# Altium integrated library Diodes - TVS.IntLib: 5379 symbols (part 103 of 122)
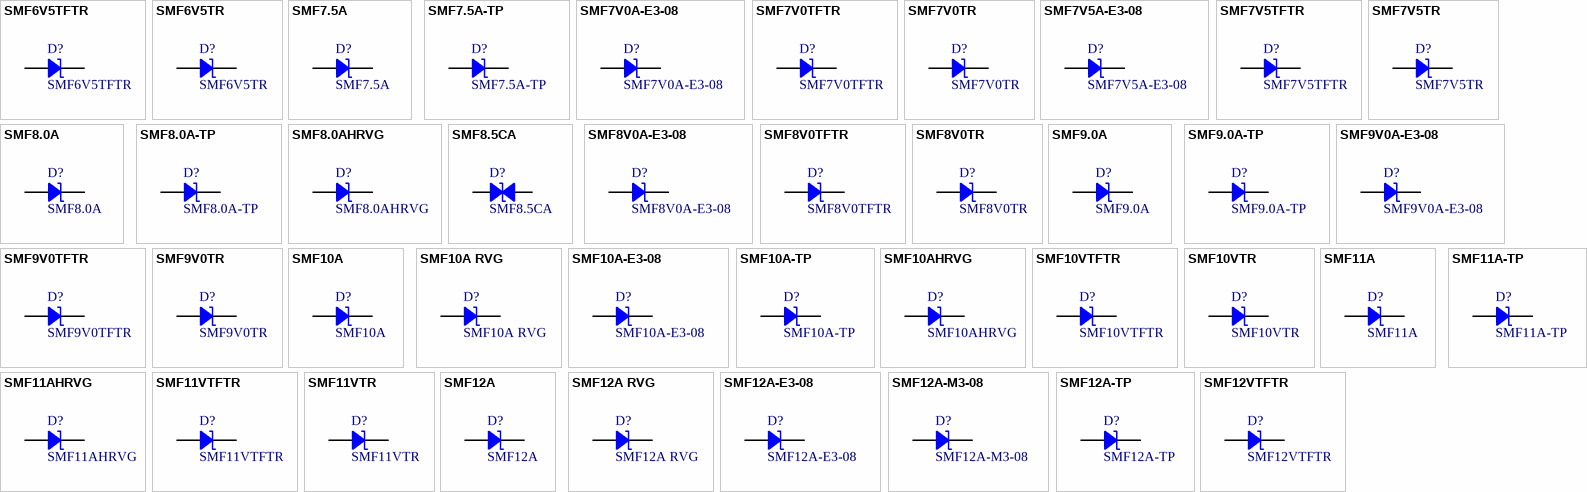
[diagram p236: symbols SMF6V5TFTR to SMF12VTFTR]

## SMF7V5A-E3-08
designator D?
TVS DIODE 7.5V 12.9V DO219AB; Manufacturer: Vishay Semiconductor Diodes Division; Capacitance @ Frequency: 773pF @ 1MHz; Current - Peak Pulse (10/1000µs): 15.5A; Power Line Protection: No; Power - Peak Pulse: 200W; Type: Zener; Unidirectional Channels: 1; Voltage - Breakdown (Min): 8.33V; Part Number: SMF7V5A-E3-08; Applications: General Purpose; ComponentLink1Description: Datasheet; ComponentLink1URL: http://www.vishay.com/docs/85881/smf5v0atosmf58a.pdf; ComponentLink2Description: DigiKey Link; ComponentLink2URL: http://digikey.com/product-detail/en/vishay-semiconductor-diodes-division/SMF7V5A-E3-08/SMF7V5A-E3-08GICT-ND/5639187; LastUpdated: 9/2/2020 1:27:45 AM; Lifecycle Status: Active; Minimum Order: 1; Mounting Type: Surface Mount; Operating Temperature: -65°C ~ 175°C (TJ); Package / Case: DO-219AB; Packaging: TapeAndReel; PartId: 5506; Part Status: Active; Price: 0.10; Series: -; Supplier 1: DigiKey; Supplier Part Number 1: SMF7V5A-E3-08GICT-ND; Supplier Device Package: SMF; Voltage - Clamping (Max) @ Ipp: 12.9V; Voltage - Reverse Standoff (Typ): 7.5V
footprint SMF DO-219AB
pins: 1, 2

## SMF7V5TFTR
designator D?
SMF7V5TF IS A TRANSIENT VOLTAGE; Manufacturer: Rohm Semiconductor; Current - Peak Pulse (10/1000µs): 15.5A; Power Line Protection: No; Power - Peak Pulse: 200W; Type: Zener; Unidirectional Channels: 1; Voltage - Breakdown (Min): 8.33V; Voltage - Clamping (Max) @ Ipp: 12.9V; Voltage - Reverse Standoff (Typ): 7.5V; Part Number: SMF7V5TFTR; Applications: Automotive; ComponentLink1Description: Datasheet; ComponentLink1URL: https://www.rohm.com/datasheet/SMF7V5TF/smf7v5tftr-e; ComponentLink2Description: DigiKey Link; ComponentLink2URL: http://digikey.com/product-detail/en/rohm-semiconductor/SMF7V5TFTR/SMF7V5TFCT-ND/9748297; LastUpdated: 9/2/2020 1:28:36 AM; Lifecycle Status: Active; Minimum Order: 1; Mounting Type: Surface Mount; Operating Temperature: 150°C (TJ); Package / Case: SOD-123F; Packaging: TapeAndReel; PartId: 10130; Part Status: Active; Price: 0.11; Series: Automotive, AEC-Q101; Supplier 1: DigiKey; Supplier Part Number 1: SMF7V5TFCT-ND; Supplier Device Package: PMDU
footprint SOD123F
pins: 1, 2

## SMF7V5TR
designator D?
TRANSIENT VOLTAGE SUPPRESSOR - S; Manufacturer: Rohm Semiconductor; Current - Peak Pulse (10/1000µs): 15.5A; Power Line Protection: No; Power - Peak Pulse: 200W; Type: Zener; Unidirectional Channels: 1; Voltage - Breakdown (Min): 8.33V; Voltage - Clamping (Max) @ Ipp: 12.9V; Voltage - Reverse Standoff (Typ): 7.5V (Max); Part Number: SMF7V5TR; Applications: General Purpose; ComponentLink1Description: Datasheet; ComponentLink1URL: https://www.rohm.com/datasheet/STZ6.8NFH/stz6.8nfh; ComponentLink2Description: DigiKey Link; ComponentLink2URL: http://digikey.com/product-detail/en/rohm-semiconductor/SMF7V5TR/846-SMF7V5CT-ND/10709520; LastUpdated: 9/2/2020 1:28:36 AM; Lifecycle Status: Active; Minimum Order: 1; Mounting Type: Surface Mount; Operating Temperature: 150°C (TJ); Package / Case: SOD-123F; Packaging: Unknown; PartId: 10061; Part Status: Active; Price: 0.06; Series: -; Supplier 1: DigiKey; Supplier Part Number 1: 846-SMF7V5CT-ND; Supplier Device Package: PMDU
footprint SOD123F
pins: 1, 2

## SMF8.0A
designator D?
TVS DIODE 8V 13.6V SOD123F; Manufacturer: Littelfuse Inc.; Current - Peak Pulse (10/1000µs): 14.7A; Power Line Protection: No; Power - Peak Pulse: 200W; Type: Zener; Unidirectional Channels: 1; Voltage - Breakdown (Min): 8.89V; Part Number: SMF8.0A; Applications: General Purpose; ComponentLink1Description: Datasheet; ComponentLink1URL: https://www.littelfuse.com/~/media/electronics/datasheets/tvs_diodes/littelfuse_tvs_diode_smf_datasheet.pdf.pdf; ComponentLink2Description: DigiKey Link; ComponentLink2URL: http://digikey.com/product-detail/en/littelfuse-inc/SMF8.0A/F5753CT-ND/3543185; LastUpdated: 9/2/2020 1:28:36 AM; Lifecycle Status: Active; Minimum Order: 1; Mounting Type: Surface Mount; Operating Temperature: -55°C ~ 150°C (TJ); Package / Case: SOD-123F; Packaging: TapeAndReel; PartId: 10118; Part Status: Active; Price: 0.11; Series: SMF; Supplier 1: DigiKey; Supplier Part Number 1: F5753CT-ND; Supplier Device Package: SOD-123F; Voltage - Clamping (Max) @ Ipp: 13.6V; Voltage - Reverse Standoff (Typ): 8V
footprint SOD123F
pins: 1, 2

## SMF8.0A-TP
designator D?
TVS DIODE 8V 13.6V SOD123FL; Manufacturer: Micro Commercial Co; Current - Peak Pulse (10/1000µs): 14.7A; Power Line Protection: No; Power - Peak Pulse: 200W; Type: Zener; Unidirectional Channels: 1; Voltage - Breakdown (Min): 8.89V; Part Number: SMF8.0A-TP; Applications: General Purpose; ComponentLink1Description: Datasheet; ComponentLink1URL: https://www.mccsemi.com/pdf/Products/SMF5.0-170(SOD-123FL)-V2.pdf; ComponentLink2Description: DigiKey Link; ComponentLink2URL: http://digikey.com/product-detail/en/micro-commercial-co/SMF8.0A-TP/SMF8.0A-TPMSCT-ND/4876894; LastUpdated: 9/2/2020 1:28:36 AM; Lifecycle Status: Active; Minimum Order: 1; Mounting Type: Surface Mount; Operating Temperature: -65°C ~ 175°C (TA); Package / Case: SOD-123F; Packaging: TapeAndReel; PartId: 10109; Part Status: Active; Price: 0.09; Series: -; Supplier 1: DigiKey; Supplier Part Number 1: SMF8.0A-TPMSCT-ND; Supplier Device Package: SOD-123FL; Voltage - Clamping (Max) @ Ipp: 13.6V; Voltage - Reverse Standoff (Typ): 8V
footprint SOD123F
pins: 1, 2

## SMF8.0AHRVG
designator D?
DIODE, TVS, UNIDIRECTIONAL; Manufacturer: Taiwan Semiconductor Corporation; Current - Peak Pulse (10/1000µs): 14.7A; Power Line Protection: No; Power - Peak Pulse: 200W; Type: Zener; Unidirectional Channels: 1; Voltage - Breakdown (Min): 8.89V; Voltage - Clamping (Max) @ Ipp: 13.6V; Voltage - Reverse Standoff (Typ): 8V; Part Number: SMF8.0AHRVG; Applications: Automotive; ComponentLink1Description: Datasheet; ComponentLink1URL: https://www.taiwansemi.com/products/datasheet/SMF5.0A%20SERIES_B1709.pdf; ComponentLink2Description: DigiKey Link; ComponentLink2URL: http://digikey.com/product-detail/en/taiwan-semiconductor-corporation/SMF8.0AHRVG/SMF8.0AHRVGCT-ND/8600443; LastUpdated: 9/2/2020 1:28:40 AM; Lifecycle Status: Active; Minimum Order: 1; Mounting Type: Surface Mount; Operating Temperature: -55°C ~ 175°C (TJ); Package / Case: SOD-123W; Packaging: TapeAndReel; PartId: 10293; Part Status: Active; Price: 0.09; Series: Automotive, AEC-Q101; Supplier 1: DigiKey; Supplier Part Number 1: SMF8.0AHRVGCT-ND; Supplier Device Package: SOD-123W
footprint SOD-123W
pins: 1, 2

## SMF8.5CA
designator D?
TVS DIODE 200W BI 8.5V SMD; Manufacturer: Littelfuse Inc.; Bidirectional Channels: 1; Current - Peak Pulse (10/1000µs): 13.9A; Power Line Protection: No; Type: Zener; Voltage - Breakdown (Min): 9.44V; Voltage - Clamping (Max) @ Ipp: 14.4V; Part Number: SMF8.5CA; Applications: General Purpose; ComponentLink1Description: Datasheet; ComponentLink1URL: https://www.littelfuse.com/~/media/electronics/datasheets/tvs_diodes/littelfuse_tvs_diode_smf_datasheet.pdf.pdf; ComponentLink2Description: DigiKey Link; ComponentLink2URL: http://digikey.com/product-detail/en/littelfuse-inc/SMF8.5CA/18-SMF8.5CACT-ND/11206244; LastUpdated: 9/2/2020 1:28:38 AM; Lifecycle Status: Active; Minimum Order: 1; Mounting Type: Surface Mount; Operating Temperature: -65°C ~ 150°C (TJ); Package / Case: SOD-123F; Packaging: Unknown; PartId: 10230; Part Status: Active; Power - Peak Pulse: 200W; Price: 0.12; Series: SMF; Supplier 1: DigiKey; Supplier Part Number 1: 18-SMF8.5CACT-ND; Supplier Device Package: SOD-123FL; Voltage - Reverse Standoff (Typ): 8.5V
footprint SOD123F
pins: 1, 2

## SMF8V0A-E3-08
designator D?
TVS DIODE 8V 13.6V DO219AB; Manufacturer: Vishay Semiconductor Diodes Division; Capacitance @ Frequency: 706pF @ 1MHz; Current - Peak Pulse (10/1000µs): 14.7A; Power Line Protection: No; Power - Peak Pulse: 200W; Type: Zener; Unidirectional Channels: 1; Voltage - Breakdown (Min): 8.89V; Part Number: SMF8V0A-E3-08; Applications: General Purpose; ComponentLink1Description: Datasheet; ComponentLink1URL: http://www.vishay.com/docs/85881/smf5v0atosmf58a.pdf; ComponentLink2Description: DigiKey Link; ComponentLink2URL: http://digikey.com/product-detail/en/vishay-semiconductor-diodes-division/SMF8V0A-E3-08/SMF8V0A-E3-08GICT-ND/5639188; LastUpdated: 9/2/2020 1:27:45 AM; Lifecycle Status: Active; Minimum Order: 1; Mounting Type: Surface Mount; Operating Temperature: -65°C ~ 175°C (TJ); Package / Case: DO-219AB; Packaging: TapeAndReel; PartId: 5510; Part Status: Active; Price: 0.10; Series: -; Supplier 1: DigiKey; Supplier Part Number 1: SMF8V0A-E3-08GICT-ND; Supplier Device Package: SMF; Voltage - Clamping (Max) @ Ipp: 13.6V; Voltage - Reverse Standoff (Typ): 8V
footprint SMF DO-219AB
pins: 1, 2

## SMF8V0TFTR
designator D?
SMF8V0TF IS A TRANSIENT VOLTAGE; Manufacturer: Rohm Semiconductor; Current - Peak Pulse (10/1000µs): 14.7A; Power Line Protection: No; Power - Peak Pulse: 200W; Type: Zener; Unidirectional Channels: 1; Voltage - Breakdown (Min): 8.89V; Voltage - Clamping (Max) @ Ipp: 13.6V; Voltage - Reverse Standoff (Typ): 8V; Part Number: SMF8V0TFTR; Applications: Automotive; ComponentLink1Description: Datasheet; ComponentLink1URL: https://www.rohm.com/datasheet/SMF8V0TF/smf8v0tftr-e; ComponentLink2Description: DigiKey Link; ComponentLink2URL: http://digikey.com/product-detail/en/rohm-semiconductor/SMF8V0TFTR/SMF8V0TFCT-ND/9748298; LastUpdated: 9/2/2020 1:28:36 AM; Lifecycle Status: Active; Minimum Order: 1; Mounting Type: Surface Mount; Operating Temperature: 150°C (TJ); Package / Case: SOD-123F; Packaging: TapeAndReel; PartId: 10138; Part Status: Active; Price: 0.11; Series: Automotive, AEC-Q101; Supplier 1: DigiKey; Supplier Part Number 1: SMF8V0TFCT-ND; Supplier Device Package: PMDU
footprint SOD123F
pins: 1, 2

## SMF8V0TR
designator D?
TRANSIENT VOLTAGE SUPPRESSOR - S; Manufacturer: Rohm Semiconductor; Current - Peak Pulse (10/1000µs): 14.7A; Power Line Protection: No; Power - Peak Pulse: 200W; Type: Zener; Unidirectional Channels: 1; Voltage - Breakdown (Min): 8.89V; Voltage - Clamping (Max) @ Ipp: 13.6V; Voltage - Reverse Standoff (Typ): 8V (Max); Part Number: SMF8V0TR; Applications: General Purpose; ComponentLink1Description: Datasheet; ComponentLink1URL: https://www.rohm.com/datasheet/STZU6.2N/stzu6.2nt146-e; ComponentLink2Description: DigiKey Link; ComponentLink2URL: http://digikey.com/product-detail/en/rohm-semiconductor/SMF8V0TR/846-SMF8V0CT-ND/10709516; LastUpdated: 9/2/2020 1:28:36 AM; Lifecycle Status: Active; Minimum Order: 1; Mounting Type: Surface Mount; Operating Temperature: 150°C (TJ); Package / Case: SOD-123F; Packaging: Unknown; PartId: 10062; Part Status: Active; Price: 0.06; Series: -; Supplier 1: DigiKey; Supplier Part Number 1: 846-SMF8V0CT-ND; Supplier Device Package: PMDU
footprint SOD123F
pins: 1, 2

## SMF9.0A
designator D?
TVS DIODE 9V 15.4V SOD123F; Manufacturer: Littelfuse Inc.; Current - Peak Pulse (10/1000µs): 13A; Power Line Protection: No; Power - Peak Pulse: 200W; Type: Zener; Unidirectional Channels: 1; Voltage - Breakdown (Min): 10V; Part Number: SMF9.0A; Applications: General Purpose; ComponentLink1Description: Datasheet; ComponentLink1URL: https://www.littelfuse.com/~/media/electronics/datasheets/tvs_diodes/littelfuse_tvs_diode_smf_datasheet.pdf.pdf; ComponentLink2Description: DigiKey Link; ComponentLink2URL: http://digikey.com/product-detail/en/littelfuse-inc/SMF9.0A/F5755CT-ND/3543187; LastUpdated: 9/2/2020 1:28:37 AM; Lifecycle Status: Active; Minimum Order: 1; Mounting Type: Surface Mount; Operating Temperature: -55°C ~ 150°C (TJ); Package / Case: SOD-123F; Packaging: TapeAndReel; PartId: 10223; Part Status: Active; Price: 0.11; Series: SMF; Supplier 1: DigiKey; Supplier Part Number 1: F5755CT-ND; Supplier Device Package: SOD-123F; Voltage - Clamping (Max) @ Ipp: 15.4V; Voltage - Reverse Standoff (Typ): 9V
footprint SOD123F
pins: 1, 2

## SMF9.0A-TP
designator D?
TVS DIODE 9V 15.4V SOD123FL; Manufacturer: Micro Commercial Co; Current - Peak Pulse (10/1000µs): 13A; Power Line Protection: No; Power - Peak Pulse: 200W; Type: Zener; Unidirectional Channels: 1; Voltage - Breakdown (Min): 10V; Part Number: SMF9.0A-TP; Applications: General Purpose; ComponentLink1Description: Datasheet; ComponentLink1URL: https://www.mccsemi.com/pdf/Products/SMF5.0-170(SOD-123FL)-V2.pdf; ComponentLink2Description: DigiKey Link; ComponentLink2URL: http://digikey.com/product-detail/en/micro-commercial-co/SMF9.0A-TP/SMF9.0A-TPMSCT-ND/5114033; LastUpdated: 9/2/2020 1:28:36 AM; Lifecycle Status: Active; Minimum Order: 1; Mounting Type: Surface Mount; Operating Temperature: -65°C ~ 175°C (TA); Package / Case: SOD-123F; Packaging: TapeAndReel; PartId: 10105; Part Status: Active; Price: 0.09; Series: -; Supplier 1: DigiKey; Supplier Part Number 1: SMF9.0A-TPMSCT-ND; Supplier Device Package: SOD-123FL; Voltage - Clamping (Max) @ Ipp: 15.4V; Voltage - Reverse Standoff (Typ): 9V
footprint SOD123F
pins: 1, 2

## SMF9V0A-E3-08
designator D?
TVS DIODE 9V 15.4V SMF; Manufacturer: Vishay Semiconductor Diodes Division; Capacitance @ Frequency: 640pF @ 1MHz; Current - Peak Pulse (10/1000µs): 13.5A; Power Line Protection: No; Power - Peak Pulse: 200W; Type: Zener; Unidirectional Channels: 1; Voltage - Breakdown (Min): 10V; Part Number: SMF9V0A-E3-08; Applications: General Purpose; ComponentLink1Description: Datasheet; ComponentLink1URL: http://www.vishay.com/docs/85881/smf5v0atosmf58a.pdf; ComponentLink2Description: DigiKey Link; ComponentLink2URL: http://digikey.com/product-detail/en/vishay-semiconductor-diodes-division/SMF9V0A-E3-08/SMF9V0A-E3-08GICT-ND/5639190; LastUpdated: 9/2/2020 1:27:45 AM; Lifecycle Status: Active; Minimum Order: 1; Mounting Type: Surface Mount; Operating Temperature: -65°C ~ 175°C (TJ); Package / Case: DO-219AB; Packaging: TapeAndReel; PartId: 5509; Part Status: Active; Price: 0.10; Series: -; Supplier 1: DigiKey; Supplier Part Number 1: SMF9V0A-E3-08GICT-ND; Supplier Device Package: SMF; Voltage - Clamping (Max) @ Ipp: 15.4V; Voltage - Reverse Standoff (Typ): 9V
footprint SMF DO-219AB
pins: 1, 2

## SMF9V0TFTR
designator D?
SMF9V0TF IS A TRANSIENT VOLTAGE; Manufacturer: Rohm Semiconductor; Current - Peak Pulse (10/1000µs): 13A; Power Line Protection: No; Power - Peak Pulse: 200W; Type: Zener; Unidirectional Channels: 1; Voltage - Breakdown (Min): 10V; Voltage - Clamping (Max) @ Ipp: 15.4V; Voltage - Reverse Standoff (Typ): 9V; Part Number: SMF9V0TFTR; Applications: Automotive; ComponentLink1Description: Datasheet; ComponentLink1URL: https://www.rohm.com/datasheet/SMF9V0TF/smf9v0tftr-e; ComponentLink2Description: DigiKey Link; ComponentLink2URL: http://digikey.com/product-detail/en/rohm-semiconductor/SMF9V0TFTR/SMF9V0TFCT-ND/9748299; LastUpdated: 9/2/2020 1:28:36 AM; Lifecycle Status: Active; Minimum Order: 1; Mounting Type: Surface Mount; Operating Temperature: 150°C (TJ); Package / Case: SOD-123F; Packaging: TapeAndReel; PartId: 10129; Part Status: Active; Price: 0.11; Series: Automotive, AEC-Q101; Supplier 1: DigiKey; Supplier Part Number 1: SMF9V0TFCT-ND; Supplier Device Package: PMDU
footprint SOD123F
pins: 1, 2

## SMF9V0TR
designator D?
TRANSIENT VOLTAGE SUPPRESSOR - S; Manufacturer: Rohm Semiconductor; Current - Peak Pulse (10/1000µs): 13A; Power Line Protection: No; Power - Peak Pulse: 200W; Type: Zener; Unidirectional Channels: 1; Voltage - Breakdown (Min): 10V; Voltage - Clamping (Max) @ Ipp: 15.4V; Voltage - Reverse Standoff (Typ): 9V (Max); Part Number: SMF9V0TR; Applications: General Purpose; ComponentLink1Description: Datasheet; ComponentLink1URL: https://www.rohm.com/datasheet/UMB11NFHA/umb11nfha-e; ComponentLink2Description: DigiKey Link; ComponentLink2URL: http://digikey.com/product-detail/en/rohm-semiconductor/SMF9V0TR/846-SMF9V0CT-ND/10709578; LastUpdated: 9/2/2020 1:28:36 AM; Lifecycle Status: Active; Minimum Order: 1; Mounting Type: Surface Mount; Operating Temperature: 150°C (TJ); Package / Case: SOD-123F; Packaging: Unknown; PartId: 10052; Part Status: Active; Price: 0.06; Series: -; Supplier 1: DigiKey; Supplier Part Number 1: 846-SMF9V0CT-ND; Supplier Device Package: PMDU
footprint SOD123F
pins: 1, 2

## SMF10A
designator D?
TVS DIODE 10V 17V SOD123F; Manufacturer: Littelfuse Inc.; Current - Peak Pulse (10/1000µs): 11.8A; Power Line Protection: No; Power - Peak Pulse: 200W; Type: Zener; Unidirectional Channels: 1; Voltage - Breakdown (Min): 11.1V; Part Number: SMF10A; Applications: General Purpose; ComponentLink1Description: Datasheet; ComponentLink1URL: https://www.littelfuse.com/~/media/electronics/datasheets/tvs_diodes/littelfuse_tvs_diode_smf_datasheet.pdf.pdf; ComponentLink2Description: DigiKey Link; ComponentLink2URL: http://digikey.com/product-detail/en/littelfuse-inc/SMF10A/F5745CT-ND/3543177; LastUpdated: 9/2/2020 1:28:37 AM; Lifecycle Status: Active; Minimum Order: 1; Mounting Type: Surface Mount; Operating Temperature: -55°C ~ 150°C (TJ); Package / Case: SOD-123F; Packaging: TapeAndReel; PartId: 10222; Part Status: Active; Price: 0.11; Series: SMF; Supplier 1: DigiKey; Supplier Part Number 1: F5745CT-ND; Supplier Device Package: SOD-123F; Voltage - Clamping (Max) @ Ipp: 17V; Voltage - Reverse Standoff (Typ): 10V
footprint SOD123F
pins: 1, 2

## SMF10A RVG
designator D?
DIODE, TVS, UNIDIRECTIONAL; Manufacturer: Taiwan Semiconductor Corporation; Current - Peak Pulse (10/1000µs): 11.8A; Power Line Protection: No; Power - Peak Pulse: 200W; Type: Zener; Unidirectional Channels: 1; Voltage - Breakdown (Min): 11.1V; Voltage - Clamping (Max) @ Ipp: 17V; Voltage - Reverse Standoff (Typ): 10V; Part Number: SMF10A RVG; Applications: General Purpose; ComponentLink1Description: Datasheet; ComponentLink1URL: https://www.taiwansemi.com/products/datasheet/SMF5.0A%20SERIES_B1709.pdf; ComponentLink2Description: DigiKey Link; ComponentLink2URL: http://digikey.com/product-detail/en/taiwan-semiconductor-corporation/SMF10A-RVG/SMF10ARVGCT-ND/8600402; LastUpdated: 9/2/2020 1:28:40 AM; Lifecycle Status: Active; Minimum Order: 1; Mounting Type: Surface Mount; Operating Temperature: -55°C ~ 175°C (TJ); Package / Case: SOD-123W; Packaging: TapeAndReel; PartId: 10339; Part Status: Active; Price: 0.08; Series: -; Supplier 1: DigiKey; Supplier Part Number 1: SMF10ARVGCT-ND; Supplier Device Package: SOD-123W
footprint SOD-123W
pins: 1, 2

## SMF10A-E3-08
designator D?
TVS DIODE 10V 17V SMF; Manufacturer: Vishay Semiconductor Diodes Division; Capacitance @ Frequency: 562pF @ 1MHz; Current - Peak Pulse (10/1000µs): 11.8A; Power Line Protection: No; Power - Peak Pulse: 200W; Type: Zener; Unidirectional Channels: 1; Voltage - Breakdown (Min): 11.1V; Part Number: SMF10A-E3-08; Applications: General Purpose; ComponentLink1Description: Datasheet; ComponentLink1URL: http://www.vishay.com/docs/85881/smf5v0atosmf58a.pdf; ComponentLink2Description: DigiKey Link; ComponentLink2URL: http://digikey.com/product-detail/en/vishay-semiconductor-diodes-division/SMF10A-E3-08/SMF10A-E3-08CT-ND/1680629; LastUpdated: 9/2/2020 1:27:45 AM; Lifecycle Status: Active; Minimum Order: 1; Mounting Type: Surface Mount; Operating Temperature: -65°C ~ 175°C (TJ); Package / Case: DO-219AB; Packaging: TapeAndReel; PartId: 5502; Part Status: Active; Price: 0.10; Series: -; Supplier 1: DigiKey; Supplier Part Number 1: SMF10A-E3-08CT-ND; Supplier Device Package: SMF; Voltage - Clamping (Max) @ Ipp: 17V; Voltage - Reverse Standoff (Typ): 10V
footprint SMF DO-219AB
pins: 1, 2

## SMF10A-TP
designator D?
TVS DIODE 10V 17V SOD123FL; Manufacturer: Micro Commercial Co; Current - Peak Pulse (10/1000µs): 11.8A; Power Line Protection: No; Power - Peak Pulse: 200W; Type: Zener; Unidirectional Channels: 1; Voltage - Breakdown (Min): 11.1V; Part Number: SMF10A-TP; Applications: General Purpose; ComponentLink1Description: Datasheet; ComponentLink1URL: https://www.mccsemi.com/pdf/Products/SMF5.0-170(SOD-123FL)-V2.pdf; ComponentLink2Description: DigiKey Link; ComponentLink2URL: http://digikey.com/product-detail/en/micro-commercial-co/SMF10A-TP/SMF10A-TPMSCT-ND/5114012; LastUpdated: 9/2/2020 1:28:37 AM; Lifecycle Status: Active; Minimum Order: 1; Mounting Type: Surface Mount; Operating Temperature: -65°C ~ 175°C (TA); Package / Case: SOD-123F; Packaging: TapeAndReel; PartId: 10177; Part Status: Active; Price: 0.09; Series: -; Supplier 1: DigiKey; Supplier Part Number 1: SMF10A-TPMSCT-ND; Supplier Device Package: SOD-123FL; Voltage - Clamping (Max) @ Ipp: 17V; Voltage - Reverse Standoff (Typ): 10V
footprint SOD123F
pins: 1, 2

## SMF10AHRVG
designator D?
DIODE, TVS, UNIDIRECTIONAL; Manufacturer: Taiwan Semiconductor Corporation; Current - Peak Pulse (10/1000µs): 11.8A; Power Line Protection: No; Power - Peak Pulse: 200W; Type: Zener; Unidirectional Channels: 1; Voltage - Breakdown (Min): 11.1V; Voltage - Clamping (Max) @ Ipp: 17V; Voltage - Reverse Standoff (Typ): 10V; Part Number: SMF10AHRVG; Applications: Automotive; ComponentLink1Description: Datasheet; ComponentLink1URL: https://www.taiwansemi.com/products/datasheet/SMF5.0A%20SERIES_B1709.pdf; ComponentLink2Description: DigiKey Link; ComponentLink2URL: http://digikey.com/product-detail/en/taiwan-semiconductor-corporation/SMF10AHRVG/SMF10AHRVGCT-ND/8600403; LastUpdated: 9/2/2020 1:28:40 AM; Lifecycle Status: Active; Minimum Order: 1; Mounting Type: Surface Mount; Operating Temperature: -55°C ~ 175°C (TJ); Package / Case: SOD-123W; Packaging: TapeAndReel; PartId: 10304; Part Status: Active; Price: 0.09; Series: Automotive, AEC-Q101; Supplier 1: DigiKey; Supplier Part Number 1: SMF10AHRVGCT-ND; Supplier Device Package: SOD-123W
footprint SOD-123W
pins: 1, 2

## SMF10VTFTR
designator D?
SMF10VTF IS A TRANSIENT VOLTAGE; Manufacturer: Rohm Semiconductor; Current - Peak Pulse (10/1000µs): 11.8A; Power Line Protection: No; Power - Peak Pulse: 200W; Type: Zener; Unidirectional Channels: 1; Voltage - Breakdown (Min): 11.1V; Voltage - Clamping (Max) @ Ipp: 17V; Voltage - Reverse Standoff (Typ): 10V; Part Number: SMF10VTFTR; Applications: Automotive; ComponentLink1Description: Datasheet; ComponentLink1URL: https://www.rohm.com/datasheet/SMF10VTF/smf10vtftr-e; ComponentLink2Description: DigiKey Link; ComponentLink2URL: http://digikey.com/product-detail/en/rohm-semiconductor/SMF10VTFTR/SMF10VTFCT-ND/9748278; LastUpdated: 9/2/2020 1:28:36 AM; Lifecycle Status: Active; Minimum Order: 1; Mounting Type: Surface Mount; Operating Temperature: 150°C (TJ); Package / Case: SOD-123F; Packaging: TapeAndReel; PartId: 10044; Part Status: Active; Price: 0.11; Series: Automotive, AEC-Q101; Supplier 1: DigiKey; Supplier Part Number 1: SMF10VTFCT-ND; Supplier Device Package: PMDU
footprint SOD123F
pins: 1, 2

## SMF10VTR
designator D?
TRANSIENT VOLTAGE SUPPRESSOR - S; Manufacturer: Rohm Semiconductor; Current - Peak Pulse (10/1000µs): 11.8A; Power Line Protection: No; Power - Peak Pulse: 200W; Type: Zener; Unidirectional Channels: 1; Voltage - Breakdown (Min): 11.1V; Voltage - Clamping (Max) @ Ipp: 17V; Voltage - Reverse Standoff (Typ): 10V (Max); Part Number: SMF10VTR; Applications: General Purpose; ComponentLink1Description: Datasheet; ComponentLink1URL: https://www.rohm.com/datasheet/SMF14V/smf14vtr-e; ComponentLink2Description: DigiKey Link; ComponentLink2URL: http://digikey.com/product-detail/en/rohm-semiconductor/SMF10VTR/846-SMF10VCT-ND/10709533; LastUpdated: 9/2/2020 1:28:36 AM; Lifecycle Status: Active; Minimum Order: 1; Mounting Type: Surface Mount; Operating Temperature: 150°C (TJ); Package / Case: SOD-123F; Packaging: Unknown; PartId: 10058; Part Status: Active; Price: 0.06; Series: -; Supplier 1: DigiKey; Supplier Part Number 1: 846-SMF10VCT-ND; Supplier Device Package: PMDU
footprint SOD123F
pins: 1, 2

## SMF11A
designator D?
TVS DIODE 11V 18.2V SOD123F; Manufacturer: Littelfuse Inc.; Current - Peak Pulse (10/1000µs): 11A; Power Line Protection: No; Power - Peak Pulse: 200W; Type: Zener; Unidirectional Channels: 1; Voltage - Breakdown (Min): 12.2V; Part Number: SMF11A; Applications: General Purpose; ComponentLink1Description: Datasheet; ComponentLink1URL: https://www.littelfuse.com/~/media/electronics/datasheets/tvs_diodes/littelfuse_tvs_diode_smf_datasheet.pdf.pdf; ComponentLink2Description: DigiKey Link; ComponentLink2URL: http://digikey.com/product-detail/en/littelfuse-inc/SMF11A/F5746CT-ND/3543178; LastUpdated: 9/2/2020 1:28:37 AM; Lifecycle Status: Active; Minimum Order: 1; Mounting Type: Surface Mount; Operating Temperature: -55°C ~ 150°C (TJ); Package / Case: SOD-123F; Packaging: TapeAndReel; PartId: 10221; Part Status: Active; Price: 0.11; Series: SMF; Supplier 1: DigiKey; Supplier Part Number 1: F5746CT-ND; Supplier Device Package: SOD-123F; Voltage - Clamping (Max) @ Ipp: 18.2V; Voltage - Reverse Standoff (Typ): 11V
footprint SOD123F
pins: 1, 2

## SMF11A-TP
designator D?
TVS DIODE 11V 18.2V SOD123FL; Manufacturer: Micro Commercial Co; Current - Peak Pulse (10/1000µs): 11A; Power Line Protection: No; Power - Peak Pulse: 200W; Type: Zener; Unidirectional Channels: 1; Voltage - Breakdown (Min): 12.2V; Part Number: SMF11A-TP; Applications: General Purpose; ComponentLink1Description: Datasheet; ComponentLink1URL: https://www.mccsemi.com/pdf/Products/SMF5.0-170(SOD-123FL)-V2.pdf; ComponentLink2Description: DigiKey Link; ComponentLink2URL: http://digikey.com/product-detail/en/micro-commercial-co/SMF11A-TP/SMF11A-TPMSCT-ND/5114013; LastUpdated: 9/2/2020 1:28:36 AM; Lifecycle Status: Active; Minimum Order: 1; Mounting Type: Surface Mount; Operating Temperature: -65°C ~ 175°C (TA); Package / Case: SOD-123F; Packaging: TapeAndReel; PartId: 10108; Part Status: Active; Price: 0.09; Series: -; Supplier 1: DigiKey; Supplier Part Number 1: SMF11A-TPMSCT-ND; Supplier Device Package: SOD-123FL; Voltage - Clamping (Max) @ Ipp: 18.2V; Voltage - Reverse Standoff (Typ): 11V
footprint SOD123F
pins: 1, 2

## SMF11AHRVG
designator D?
DIODE, TVS, UNIDIRECTIONAL; Manufacturer: Taiwan Semiconductor Corporation; Current - Peak Pulse (10/1000µs): 11A; Power Line Protection: No; Power - Peak Pulse: 200W; Type: Zener; Unidirectional Channels: 1; Voltage - Breakdown (Min): 12.2V; Voltage - Clamping (Max) @ Ipp: 18.2V; Voltage - Reverse Standoff (Typ): 11V; Part Number: SMF11AHRVG; Applications: Automotive; ComponentLink1Description: Datasheet; ComponentLink1URL: https://www.taiwansemi.com/products/datasheet/SMF5.0A%20SERIES_B1709.pdf; ComponentLink2Description: DigiKey Link; ComponentLink2URL: http://digikey.com/product-detail/en/taiwan-semiconductor-corporation/SMF11AHRVG/SMF11AHRVGCT-ND/8600404; LastUpdated: 9/2/2020 1:28:40 AM; Lifecycle Status: Active; Minimum Order: 1; Mounting Type: Surface Mount; Operating Temperature: -55°C ~ 175°C (TJ); Package / Case: SOD-123W; Packaging: TapeAndReel; PartId: 10352; Part Status: Active; Price: 0.09; Series: Automotive, AEC-Q101; Supplier 1: DigiKey; Supplier Part Number 1: SMF11AHRVGCT-ND; Supplier Device Package: SOD-123W
footprint SOD-123W
pins: 1, 2

## SMF11VTFTR
designator D?
SMF11VTF IS A TRANSIENT VOLTAGE; Manufacturer: Rohm Semiconductor; Current - Peak Pulse (10/1000µs): 11A; Power Line Protection: No; Power - Peak Pulse: 200W; Type: Zener; Unidirectional Channels: 1; Voltage - Breakdown (Min): 12.2V; Voltage - Clamping (Max) @ Ipp: 18.2V; Voltage - Reverse Standoff (Typ): 11V; Part Number: SMF11VTFTR; Applications: Automotive; ComponentLink1Description: Datasheet; ComponentLink1URL: https://www.rohm.com/datasheet/SMF11VTF/smf11vtftr-e; ComponentLink2Description: DigiKey Link; ComponentLink2URL: http://digikey.com/product-detail/en/rohm-semiconductor/SMF11VTFTR/SMF11VTFCT-ND/9748279; LastUpdated: 9/2/2020 1:28:36 AM; Lifecycle Status: Active; Minimum Order: 1; Mounting Type: Surface Mount; Operating Temperature: 150°C (TJ); Package / Case: SOD-123F; Packaging: TapeAndReel; PartId: 10043; Part Status: Active; Price: 0.11; Series: Automotive, AEC-Q101; Supplier 1: DigiKey; Supplier Part Number 1: SMF11VTFCT-ND; Supplier Device Package: PMDU
footprint SOD123F
pins: 1, 2

## SMF11VTR
designator D?
TRANSIENT VOLTAGE SUPPRESSOR - S; Manufacturer: Rohm Semiconductor; Current - Peak Pulse (10/1000µs): 11A; Power Line Protection: No; Power - Peak Pulse: 200W; Type: Zener; Unidirectional Channels: 1; Voltage - Breakdown (Min): 12.2V; Voltage - Clamping (Max) @ Ipp: 18.2V; Voltage - Reverse Standoff (Typ): 11V (Max); Part Number: SMF11VTR; Applications: General Purpose; ComponentLink1Description: Datasheet; ComponentLink1URL: https://www.rohm.com/datasheet/SMF15V/smf15vtr-e; ComponentLink2Description: DigiKey Link; ComponentLink2URL: http://digikey.com/product-detail/en/rohm-semiconductor/SMF11VTR/846-SMF11VCT-ND/10709522; LastUpdated: 9/2/2020 1:28:36 AM; Lifecycle Status: Active; Minimum Order: 1; Mounting Type: Surface Mount; Operating Temperature: 150°C (TJ); Package / Case: SOD-123F; Packaging: Unknown; PartId: 10060; Part Status: Active; Price: 0.06; Series: -; Supplier 1: DigiKey; Supplier Part Number 1: 846-SMF11VCT-ND; Supplier Device Package: PMDU
footprint SOD123F
pins: 1, 2

## SMF12A
designator D?
TVS DIODE 12V 19.9V SOD123F; Manufacturer: Littelfuse Inc.; Current - Peak Pulse (10/1000µs): 10.1A; Power Line Protection: No; Power - Peak Pulse: 200W; Type: Zener; Unidirectional Channels: 1; Voltage - Breakdown (Min): 13.3V; Part Number: SMF12A; Applications: General Purpose; ComponentLink1Description: Datasheet; ComponentLink1URL: https://www.littelfuse.com/~/media/electronics/datasheets/tvs_diodes/littelfuse_tvs_diode_smf_datasheet.pdf.pdf; ComponentLink2Description: DigiKey Link; ComponentLink2URL: http://digikey.com/product-detail/en/littelfuse-inc/SMF12A/F5747CT-ND/3543179; LastUpdated: 9/2/2020 1:28:36 AM; Lifecycle Status: Active; Minimum Order: 1; Mounting Type: Surface Mount; Operating Temperature: -55°C ~ 150°C (TJ); Package / Case: SOD-123F; Packaging: TapeAndReel; PartId: 10095; Part Status: Active; Price: 0.10; Series: SMF; Supplier 1: DigiKey; Supplier Part Number 1: F5747CT-ND; Supplier Device Package: SOD-123F; Voltage - Clamping (Max) @ Ipp: 19.9V; Voltage - Reverse Standoff (Typ): 12V
footprint SOD123F
pins: 1, 2

## SMF12A RVG
designator D?
DIODE, TVS, UNIDIRECTIONAL; Manufacturer: Taiwan Semiconductor Corporation; Current - Peak Pulse (10/1000µs): 10.1A; Power Line Protection: No; Power - Peak Pulse: 200W; Type: Zener; Unidirectional Channels: 1; Voltage - Breakdown (Min): 13.3V; Voltage - Clamping (Max) @ Ipp: 19.9V; Voltage - Reverse Standoff (Typ): 12V; Part Number: SMF12A RVG; Applications: General Purpose; ComponentLink1Description: Datasheet; ComponentLink1URL: https://www.taiwansemi.com/products/datasheet/SMF5.0A%20SERIES_B1709.pdf; ComponentLink2Description: DigiKey Link; ComponentLink2URL: http://digikey.com/product-detail/en/taiwan-semiconductor-corporation/SMF12A-RVG/SMF12ARVGCT-ND/8600405; LastUpdated: 9/2/2020 1:28:40 AM; Lifecycle Status: Active; Minimum Order: 1; Mounting Type: Surface Mount; Operating Temperature: -55°C ~ 175°C (TJ); Package / Case: SOD-123W; Packaging: TapeAndReel; PartId: 10338; Part Status: Active; Price: 0.08; Series: -; Supplier 1: DigiKey; Supplier Part Number 1: SMF12ARVGCT-ND; Supplier Device Package: SOD-123W
footprint SOD-123W
pins: 1, 2

## SMF12A-E3-08
designator D?
TVS DIODE 12V 19.9V SMF; Manufacturer: Vishay Semiconductor Diodes Division; Capacitance @ Frequency: 483pF @ 1MHz; Current - Peak Pulse (10/1000µs): 10.1A; Power Line Protection: No; Power - Peak Pulse: 200W; Type: Zener; Unidirectional Channels: 1; Voltage - Breakdown (Min): 13.3V; Part Number: SMF12A-E3-08; Applications: General Purpose; ComponentLink1Description: Datasheet; ComponentLink1URL: http://www.vishay.com/docs/85881/smf5v0atosmf58a.pdf; ComponentLink2Description: DigiKey Link; ComponentLink2URL: http://digikey.com/product-detail/en/vishay-semiconductor-diodes-division/SMF12A-E3-08/SMF12A-E3-08CT-ND/1680630; LastUpdated: 9/2/2020 1:27:46 AM; Lifecycle Status: Active; Minimum Order: 1; Mounting Type: Surface Mount; Operating Temperature: -65°C ~ 175°C (TJ); Package / Case: DO-219AB; Packaging: TapeAndReel; PartId: 5541; Part Status: Active; Price: 0.10; Series: -; Supplier 1: DigiKey; Supplier Part Number 1: SMF12A-E3-08CT-ND; Supplier Device Package: SMF; Voltage - Clamping (Max) @ Ipp: 19.9V; Voltage - Reverse Standoff (Typ): 12V
footprint SMF DO-219AB
pins: 1, 2

## SMF12A-M3-08
designator D?
TVS DIODE 12V 19.9V DO219AB; Manufacturer: Vishay Semiconductor Diodes Division; Capacitance @ Frequency: 483pF @ 1MHz; Current - Peak Pulse (10/1000µs): 10.1A; Power Line Protection: No; Power - Peak Pulse: 200W; Type: Zener; Unidirectional Channels: 1; Voltage - Breakdown (Min): 13.3V; Part Number: SMF12A-M3-08; Applications: General Purpose; ComponentLink1Description: Datasheet; ComponentLink1URL: http://www.vishay.com/docs/85881/smf5v0atosmf58a.pdf; ComponentLink2Description: DigiKey Link; ComponentLink2URL: http://digikey.com/product-detail/en/vishay-semiconductor-diodes-division/SMF12A-M3-08/SMF12A-M3-08GICT-ND/9601155; LastUpdated: 9/2/2020 1:27:45 AM; Lifecycle Status: Active; Minimum Order: 1; Mounting Type: Surface Mount; Operating Temperature: -65°C ~ 175°C (TJ); Package / Case: DO-219AB; Packaging: TapeAndReel; PartId: 5520; Part Status: Active; Price: 0.10; Series: -; Supplier 1: DigiKey; Supplier Part Number 1: SMF12A-M3-08GICT-ND; Supplier Device Package: SMF (DO-219AB); Voltage - Clamping (Max) @ Ipp: 19.9V; Voltage - Reverse Standoff (Typ): 12V
footprint SMF DO-219AB
pins: 1, 2

## SMF12A-TP
designator D?
TVS DIODE 12V 19.9V SOD123FL; Manufacturer: Micro Commercial Co; Current - Peak Pulse (10/1000µs): 10.1A; Power Line Protection: No; Power - Peak Pulse: 200W; Type: Zener; Unidirectional Channels: 1; Voltage - Breakdown (Min): 13.3V; Part Number: SMF12A-TP; Applications: General Purpose; ComponentLink1Description: Datasheet; ComponentLink1URL: https://www.mccsemi.com/pdf/Products/SMF5.0-170(SOD-123FL)-F.pdf; ComponentLink2Description: DigiKey Link; ComponentLink2URL: http://digikey.com/product-detail/en/micro-commercial-co/SMF12A-TP/SMF12A-TPMSCT-ND/4918827; LastUpdated: 9/2/2020 1:28:36 AM; Lifecycle Status: Active; Minimum Order: 1; Mounting Type: Surface Mount; Operating Temperature: -65°C ~ 175°C (TA); Package / Case: SOD-123F; Packaging: CutTape; PartId: 10073; Part Status: Active; Price: 0.42; Series: -; Supplier 1: DigiKey; Supplier Part Number 1: SMF12A-TPMSCT-ND; Supplier Device Package: SOD-123FL; Voltage - Clamping (Max) @ Ipp: 19.9V; Voltage - Reverse Standoff (Typ): 12V
footprint SOD123F
pins: 1, 2

## SMF12VTFTR
designator D?
SMF12VTF IS A TRANSIENT VOLTAGE; Manufacturer: Rohm Semiconductor; Current - Peak Pulse (10/1000µs): 10.1A; Power Line Protection: No; Power - Peak Pulse: 200W; Type: Zener; Unidirectional Channels: 1; Voltage - Breakdown (Min): 13.3V; Voltage - Clamping (Max) @ Ipp: 19.9V; Voltage - Reverse Standoff (Typ): 12V; Part Number: SMF12VTFTR; Applications: Automotive; ComponentLink1Description: Datasheet; ComponentLink1URL: https://www.rohm.com/datasheet/SMF12VTF/smf12vtftr-e; ComponentLink2Description: DigiKey Link; ComponentLink2URL: http://digikey.com/product-detail/en/rohm-semiconductor/SMF12VTFTR/SMF12VTFCT-ND/9748280; LastUpdated: 9/2/2020 1:28:37 AM; Lifecycle Status: Active; Minimum Order: 1; Mounting Type: Surface Mount; Operating Temperature: 150°C (TJ); Package / Case: SOD-123F; Packaging: TapeAndReel; PartId: 10191; Part Status: Active; Price: 0.11; Series: Automotive, AEC-Q101; Supplier 1: DigiKey; Supplier Part Number 1: SMF12VTFCT-ND; Supplier Device Package: PMDU
footprint SOD123F
pins: 1, 2

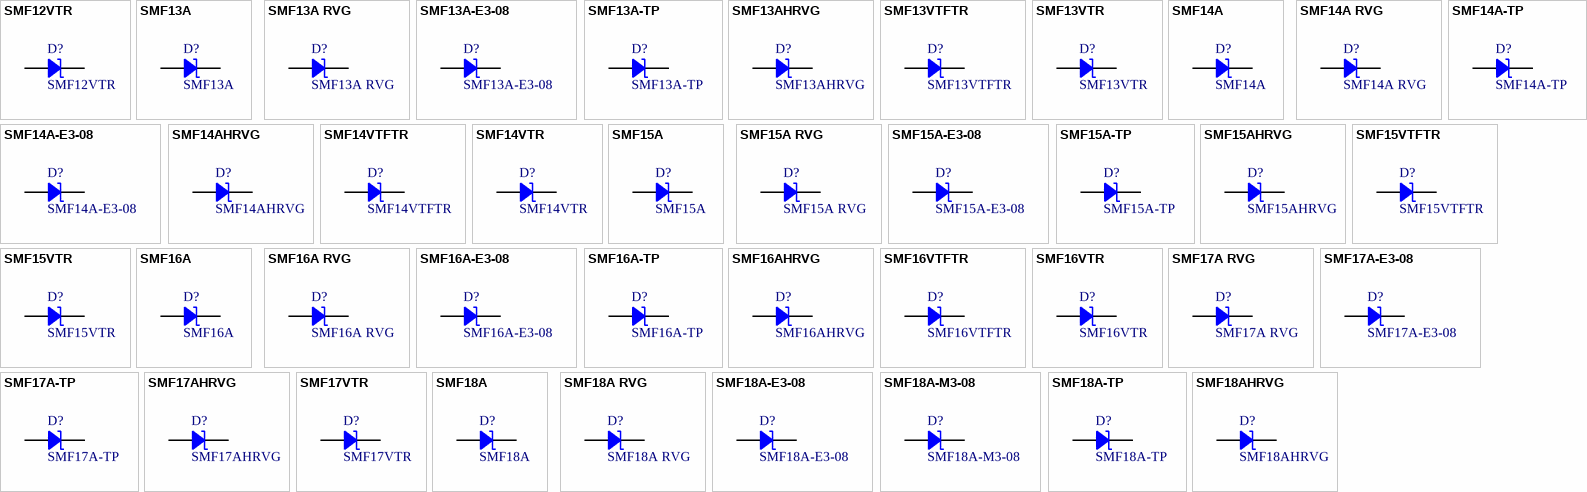
[diagram p114: symbols SMF12VTR to SMF18AHRVG]

## SMF12VTR
designator D?
TRANSIENT VOLTAGE SUPPRESSOR - S; Manufacturer: Rohm Semiconductor; Current - Peak Pulse (10/1000µs): 10.1A; Power Line Protection: No; Power - Peak Pulse: 200W; Type: Zener; Unidirectional Channels: 1; Voltage - Breakdown (Min): 13.3V; Voltage - Clamping (Max) @ Ipp: 19.9V; Voltage - Reverse Standoff (Typ): 12V (Max); Part Number: SMF12VTR; Applications: General Purpose; ComponentLink1Description: Datasheet; ComponentLink1URL: https://www.rohm.com/datasheet/SMF16V/smf16vtr-e; ComponentLink2Description: DigiKey Link; ComponentLink2URL: http://digikey.com/product-detail/en/rohm-semiconductor/SMF12VTR/846-SMF12VCT-ND/10709543; LastUpdated: 9/2/2020 1:28:36 AM; Lifecycle Status: Active; Minimum Order: 1; Mounting Type: Surface Mount; Operating Temperature: 150°C (TJ); Package / Case: SOD-123F; Packaging: Unknown; PartId: 10056; Part Status: Active; Price: 0.06; Series: -; Supplier 1: DigiKey; Supplier Part Number 1: 846-SMF12VCT-ND; Supplier Device Package: PMDU
footprint SOD123F
pins: 1, 2

## SMF13A
designator D?
TVS DIODE 13V 21.5V SOD123F; Manufacturer: Littelfuse Inc.; Current - Peak Pulse (10/1000µs): 9.3A; Power Line Protection: No; Power - Peak Pulse: 200W; Type: Zener; Unidirectional Channels: 1; Voltage - Breakdown (Min): 14.4V; Part Number: SMF13A; Applications: General Purpose; ComponentLink1Description: Datasheet; ComponentLink1URL: https://www.littelfuse.com/~/media/electronics/datasheets/tvs_diodes/littelfuse_tvs_diode_smf_datasheet.pdf.pdf; ComponentLink2Description: DigiKey Link; ComponentLink2URL: http://digikey.com/product-detail/en/littelfuse-inc/SMF13A/F5815CT-ND/3672305; LastUpdated: 9/2/2020 1:28:36 AM; Lifecycle Status: Active; Minimum Order: 1; Mounting Type: Surface Mount; Operating Temperature: -55°C ~ 150°C (TJ); Package / Case: SOD-123F; Packaging: TapeAndReel; PartId: 10088; Part Status: Active; Price: 0.11; Series: SMF; Supplier 1: DigiKey; Supplier Part Number 1: F5815CT-ND; Supplier Device Package: SOD-123F; Voltage - Clamping (Max) @ Ipp: 21.5V; Voltage - Reverse Standoff (Typ): 13V
footprint SOD123F
pins: 1, 2

## SMF13A RVG
designator D?
DIODE, TVS, UNIDIRECTIONAL; Manufacturer: Taiwan Semiconductor Corporation; Current - Peak Pulse (10/1000µs): 9.3A; Power Line Protection: No; Power - Peak Pulse: 200W; Type: Zener; Unidirectional Channels: 1; Voltage - Breakdown (Min): 14.4V; Voltage - Clamping (Max) @ Ipp: 21.5V; Voltage - Reverse Standoff (Typ): 13V; Part Number: SMF13A RVG; Applications: General Purpose; ComponentLink1Description: Datasheet; ComponentLink1URL: https://www.taiwansemi.com/products/datasheet/SMF5.0A%20SERIES_B1709.pdf; ComponentLink2Description: DigiKey Link; ComponentLink2URL: http://digikey.com/product-detail/en/taiwan-semiconductor-corporation/SMF13A-RVG/SMF13ARVGCT-ND/8600406; LastUpdated: 9/2/2020 1:28:40 AM; Lifecycle Status: Active; Minimum Order: 1; Mounting Type: Surface Mount; Operating Temperature: -55°C ~ 175°C (TJ); Package / Case: SOD-123W; Packaging: TapeAndReel; PartId: 10347; Part Status: Active; Price: 0.08; Series: -; Supplier 1: DigiKey; Supplier Part Number 1: SMF13ARVGCT-ND; Supplier Device Package: SOD-123W
footprint SOD-123W
pins: 1, 2

## SMF13A-E3-08
designator D?
TVS DIODE 13V 21.5V DO219AB; Manufacturer: Vishay Semiconductor Diodes Division; Capacitance @ Frequency: 423pF @ 1MHz; Current - Peak Pulse (10/1000µs): 9.3A; Power Line Protection: No; Power - Peak Pulse: 200W; Type: Zener; Unidirectional Channels: 1; Voltage - Breakdown (Min): 14.4V; Part Number: SMF13A-E3-08; Applications: General Purpose; ComponentLink1Description: Datasheet; ComponentLink1URL: http://www.vishay.com/docs/85881/smf5v0atosmf58a.pdf; ComponentLink2Description: DigiKey Link; ComponentLink2URL: http://digikey.com/product-detail/en/vishay-semiconductor-diodes-division/SMF13A-E3-08/SMF13A-E3-08GICT-ND/5639171; LastUpdated: 9/2/2020 1:27:46 AM; Lifecycle Status: Active; Minimum Order: 1; Mounting Type: Surface Mount; Operating Temperature: -65°C ~ 175°C (TJ); Package / Case: DO-219AB; Packaging: TapeAndReel; PartId: 5540; Part Status: Active; Price: 0.10; Series: -; Supplier 1: DigiKey; Supplier Part Number 1: SMF13A-E3-08GICT-ND; Supplier Device Package: SMF; Voltage - Clamping (Max) @ Ipp: 21.5V; Voltage - Reverse Standoff (Typ): 13V
footprint SMF DO-219AB
pins: 1, 2

## SMF13A-TP
designator D?
TVS DIODE 13V 21.5V SOD123FL; Manufacturer: Micro Commercial Co; Current - Peak Pulse (10/1000µs): 9.3A; Power Line Protection: No; Power - Peak Pulse: 200W; Type: Zener; Unidirectional Channels: 1; Voltage - Breakdown (Min): 14.4V; Part Number: SMF13A-TP; Applications: General Purpose; ComponentLink1Description: Datasheet; ComponentLink1URL: https://www.mccsemi.com/pdf/Products/SMF5.0-170(SOD-123FL)-F.pdf; ComponentLink2Description: DigiKey Link; ComponentLink2URL: http://digikey.com/product-detail/en/micro-commercial-co/SMF13A-TP/SMF13A-TPMSCT-ND/2268359; LastUpdated: 9/2/2020 1:28:36 AM; Lifecycle Status: Active; Minimum Order: 1; Mounting Type: Surface Mount; Operating Temperature: -65°C ~ 175°C (TA); Package / Case: SOD-123F; Packaging: TapeAndReel; PartId: 10114; Part Status: Active; Price: 0.09; Series: -; Supplier 1: DigiKey; Supplier Part Number 1: SMF13A-TPMSCT-ND; Supplier Device Package: SOD-123FL; Voltage - Clamping (Max) @ Ipp: 21.5V; Voltage - Reverse Standoff (Typ): 13V
footprint SOD123F
pins: 1, 2

## SMF13AHRVG
designator D?
DIODE, TVS, UNIDIRECTIONAL; Manufacturer: Taiwan Semiconductor Corporation; Current - Peak Pulse (10/1000µs): 9.3A; Power Line Protection: No; Power - Peak Pulse: 200W; Type: Zener; Unidirectional Channels: 1; Voltage - Breakdown (Min): 14.4V; Voltage - Clamping (Max) @ Ipp: 21.5V; Voltage - Reverse Standoff (Typ): 13V; Part Number: SMF13AHRVG; Applications: Automotive; ComponentLink1Description: Datasheet; ComponentLink1URL: https://www.taiwansemi.com/products/datasheet/SMF5.0A%20SERIES_B1709.pdf; ComponentLink2Description: DigiKey Link; ComponentLink2URL: http://digikey.com/product-detail/en/taiwan-semiconductor-corporation/SMF13AHRVG/SMF13AHRVGCT-ND/8600407; LastUpdated: 9/2/2020 1:28:40 AM; Lifecycle Status: Active; Minimum Order: 1; Mounting Type: Surface Mount; Operating Temperature: -55°C ~ 175°C (TJ); Package / Case: SOD-123W; Packaging: TapeAndReel; PartId: 10309; Part Status: Active; Price: 0.09; Series: Automotive, AEC-Q101; Supplier 1: DigiKey; Supplier Part Number 1: SMF13AHRVGCT-ND; Supplier Device Package: SOD-123W
footprint SOD-123W
pins: 1, 2

## SMF13VTFTR
designator D?
SMF13VTF IS A TRANSIENT VOLTAGE; Manufacturer: Rohm Semiconductor; Current - Peak Pulse (10/1000µs): 9.3A; Power Line Protection: No; Power - Peak Pulse: 200W; Type: Zener; Unidirectional Channels: 1; Voltage - Breakdown (Min): 14.4V; Voltage - Clamping (Max) @ Ipp: 21.5V; Voltage - Reverse Standoff (Typ): 13V; Part Number: SMF13VTFTR; Applications: Automotive; ComponentLink1Description: Datasheet; ComponentLink1URL: https://www.rohm.com/datasheet/SMF13VTF/smf13vtftr-e; ComponentLink2Description: DigiKey Link; ComponentLink2URL: http://digikey.com/product-detail/en/rohm-semiconductor/SMF13VTFTR/SMF13VTFDKR-ND/9748385; LastUpdated: 9/2/2020 1:28:37 AM; Lifecycle Status: Active; Minimum Order: 1; Mounting Type: Surface Mount; Operating Temperature: 150°C (TJ); Package / Case: SOD-123F; Packaging: TapeAndReel; PartId: 10200; Part Status: Active; Price: 0.11; Series: Automotive, AEC-Q101; Supplier 1: DigiKey; Supplier Part Number 1: SMF13VTFDKR-ND; Supplier Device Package: PMDU
footprint SOD123F
pins: 1, 2

## SMF13VTR
designator D?
TRANSIENT VOLTAGE SUPPRESSOR - S; Manufacturer: Rohm Semiconductor; Current - Peak Pulse (10/1000µs): 9.3A; Power Line Protection: No; Power - Peak Pulse: 200W; Type: Zener; Unidirectional Channels: 1; Voltage - Breakdown (Min): 14.4V; Voltage - Clamping (Max) @ Ipp: 21.5V; Voltage - Reverse Standoff (Typ): 13V (Max); Part Number: SMF13VTR; Applications: General Purpose; ComponentLink1Description: Datasheet; ComponentLink1URL: https://www.rohm.com/datasheet/SMF17V/smf17vtr-e; ComponentLink2Description: DigiKey Link; ComponentLink2URL: http://digikey.com/product-detail/en/rohm-semiconductor/SMF13VTR/846-SMF13VCT-ND/10709502; LastUpdated: 9/2/2020 1:28:36 AM; Lifecycle Status: Active; Minimum Order: 1; Mounting Type: Surface Mount; Operating Temperature: 150°C (TJ); Package / Case: SOD-123F; Packaging: Unknown; PartId: 10066; Part Status: Active; Price: 0.06; Series: -; Supplier 1: DigiKey; Supplier Part Number 1: 846-SMF13VCT-ND; Supplier Device Package: PMDU
footprint SOD123F
pins: 1, 2

## SMF14A
designator D?
TVS DIODE 14V 23.2V SOD123F; Manufacturer: Littelfuse Inc.; Current - Peak Pulse (10/1000µs): 8.6A; Power Line Protection: No; Power - Peak Pulse: 200W; Type: Zener; Unidirectional Channels: 1; Voltage - Breakdown (Min): 15.6V; Part Number: SMF14A; Applications: General Purpose; ComponentLink1Description: Datasheet; ComponentLink1URL: https://www.littelfuse.com/~/media/electronics/datasheets/tvs_diodes/littelfuse_tvs_diode_smf_datasheet.pdf.pdf; ComponentLink2Description: DigiKey Link; ComponentLink2URL: http://digikey.com/product-detail/en/littelfuse-inc/SMF14A/F5816CT-ND/3672306; LastUpdated: 9/2/2020 1:28:36 AM; Lifecycle Status: Active; Minimum Order: 1; Mounting Type: Surface Mount; Operating Temperature: -55°C ~ 150°C (TJ); Package / Case: SOD-123F; Packaging: TapeAndReel; PartId: 10135; Part Status: Active; Price: 0.11; Series: SMF; Supplier 1: DigiKey; Supplier Part Number 1: F5816CT-ND; Supplier Device Package: SOD-123F; Voltage - Clamping (Max) @ Ipp: 23.2V; Voltage - Reverse Standoff (Typ): 14V
footprint SOD123F
pins: 1, 2

## SMF14A RVG
designator D?
DIODE, TVS, UNIDIRECTIONAL; Manufacturer: Taiwan Semiconductor Corporation; Current - Peak Pulse (10/1000µs): 8.6A; Power Line Protection: No; Power - Peak Pulse: 200W; Type: Zener; Unidirectional Channels: 1; Voltage - Breakdown (Min): 15.6V; Voltage - Clamping (Max) @ Ipp: 23.2V; Voltage - Reverse Standoff (Typ): 14V; Part Number: SMF14A RVG; Applications: General Purpose; ComponentLink1Description: Datasheet; ComponentLink1URL: https://www.taiwansemi.com/products/datasheet/SMF5.0A%20SERIES_B1709.pdf; ComponentLink2Description: DigiKey Link; ComponentLink2URL: http://digikey.com/product-detail/en/taiwan-semiconductor-corporation/SMF14A-RVG/SMF14ARVGCT-ND/8600408; LastUpdated: 9/2/2020 1:28:40 AM; Lifecycle Status: Active; Minimum Order: 1; Mounting Type: Surface Mount; Operating Temperature: -55°C ~ 175°C (TJ); Package / Case: SOD-123W; Packaging: TapeAndReel; PartId: 10337; Part Status: Active; Price: 0.08; Series: -; Supplier 1: DigiKey; Supplier Part Number 1: SMF14ARVGCT-ND; Supplier Device Package: SOD-123W
footprint SOD-123W
pins: 1, 2

## SMF14A-E3-08
designator D?
TVS DIODE 14V 23.2V SMF; Manufacturer: Vishay Semiconductor Diodes Division; Capacitance @ Frequency: 392pF @ 1MHz; Current - Peak Pulse (10/1000µs): 8.6A; Power Line Protection: No; Power - Peak Pulse: 200W; Type: Zener; Unidirectional Channels: 1; Voltage - Breakdown (Min): 15.6V; Part Number: SMF14A-E3-08; Applications: General Purpose; ComponentLink1Description: Datasheet; ComponentLink1URL: http://www.vishay.com/docs/85881/smf5v0atosmf58a.pdf; ComponentLink2Description: DigiKey Link; ComponentLink2URL: http://digikey.com/product-detail/en/vishay-semiconductor-diodes-division/SMF14A-E3-08/SMF14A-E3-08GICT-ND/5639172; LastUpdated: 9/2/2020 1:27:45 AM; Lifecycle Status: Active; Minimum Order: 1; Mounting Type: Surface Mount; Operating Temperature: -65°C ~ 175°C (TJ); Package / Case: DO-219AB; Packaging: TapeAndReel; PartId: 5486; Part Status: Active; Price: 0.10; Series: -; Supplier 1: DigiKey; Supplier Part Number 1: SMF14A-E3-08GICT-ND; Supplier Device Package: SMF; Voltage - Clamping (Max) @ Ipp: 23.2V; Voltage - Reverse Standoff (Typ): 14V
footprint SMF DO-219AB
pins: 1, 2

## SMF14A-TP
designator D?
TVS DIODE 14V 23.2V SOD123FL; Manufacturer: Micro Commercial Co; Current - Peak Pulse (10/1000µs): 8.6A; Power Line Protection: No; Power - Peak Pulse: 200W; Type: Zener; Unidirectional Channels: 1; Voltage - Breakdown (Min): 15.6V; Part Number: SMF14A-TP; Applications: General Purpose; ComponentLink1Description: Datasheet; ComponentLink1URL: https://www.mccsemi.com/pdf/Products/SMF5.0-170(SOD-123FL)-V2.pdf; ComponentLink2Description: DigiKey Link; ComponentLink2URL: http://digikey.com/product-detail/en/micro-commercial-co/SMF14A-TP/SMF14A-TPMSCT-ND/5114014; LastUpdated: 9/2/2020 1:28:37 AM; Lifecycle Status: Active; Minimum Order: 1; Mounting Type: Surface Mount; Operating Temperature: -65°C ~ 175°C (TA); Package / Case: SOD-123F; Packaging: TapeAndReel; PartId: 10186; Part Status: Active; Price: 0.09; Series: -; Supplier 1: DigiKey; Supplier Part Number 1: SMF14A-TPMSCT-ND; Supplier Device Package: SOD-123FL; Voltage - Clamping (Max) @ Ipp: 23.2V; Voltage - Reverse Standoff (Typ): 14V
footprint SOD123F
pins: 1, 2

## SMF14AHRVG
designator D?
DIODE, TVS, UNIDIRECTIONAL; Manufacturer: Taiwan Semiconductor Corporation; Current - Peak Pulse (10/1000µs): 8.6A; Power Line Protection: No; Power - Peak Pulse: 200W; Type: Zener; Unidirectional Channels: 1; Voltage - Breakdown (Min): 15.6V; Voltage - Clamping (Max) @ Ipp: 23.2V; Voltage - Reverse Standoff (Typ): 14V; Part Number: SMF14AHRVG; Applications: Automotive; ComponentLink1Description: Datasheet; ComponentLink1URL: https://www.taiwansemi.com/products/datasheet/SMF5.0A%20SERIES_B1709.pdf; ComponentLink2Description: DigiKey Link; ComponentLink2URL: http://digikey.com/product-detail/en/taiwan-semiconductor-corporation/SMF14AHRVG/SMF14AHRVGCT-ND/8600409; LastUpdated: 9/2/2020 1:28:40 AM; Lifecycle Status: Active; Minimum Order: 1; Mounting Type: Surface Mount; Operating Temperature: -55°C ~ 175°C (TJ); Package / Case: SOD-123W; Packaging: TapeAndReel; PartId: 10303; Part Status: Active; Price: 0.09; Series: Automotive, AEC-Q101; Supplier 1: DigiKey; Supplier Part Number 1: SMF14AHRVGCT-ND; Supplier Device Package: SOD-123W
footprint SOD-123W
pins: 1, 2